# EAGLE library part STM32L412K (library pimoroni-ics)
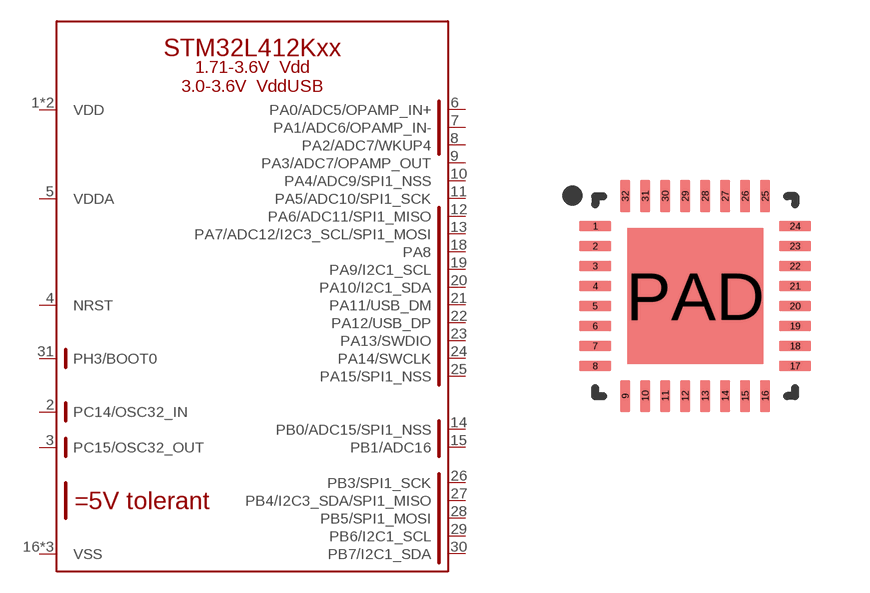
[diagram p101: symbol with the pads of QFN-32; footprint QFN-32]

Designator prefix MCU

## STM32L412KXU  [QFN-32]
1  VDD
2  PC14/OSC32_IN
3  PC15/OSC32_OUT
4  NRST
5  VDDA
6  PA0/ADC5/OPAMP_IN+
7  PA1/ADC6/OPAMP_IN-
8  PA2/ADC7/WKUP4
9  PA3/ADC7/OPAMP_OUT
10  PA4/ADC9/SPI1_NSS
11  PA5/ADC10/SPI1_SCK
12  PA6/ADC11/SPI1_MISO
13  PA7/ADC12/I2C3_SCL/SPI1_MOSI
14  PB0/ADC15/SPI1_NSS
15  PB1/ADC16
16  VSS
17  VDD
18  PA8
19  PA9/I2C1_SCL
20  PA10/I2C1_SDA
21  PA11/USB_DM
22  PA12/USB_DP
23  PA13/SWDIO
24  PA14/SWCLK
25  PA15/SPI1_NSS
26  PB3/SPI1_SCK
27  PB4/I2C3_SDA/SPI1_MISO
28  PB5/SPI1_MOSI
29  PB6/I2C1_SCL
30  PB7/I2C1_SDA
31  PH3/BOOT0
32  VSS
PAD  VSS

## Footprint QFN-32 (pad centres in mm)
smd 0.8 x 0.25: 1 -2.5,1.75; 2 -2.5,1.25; 3 -2.5,0.75; 4 -2.5,0.25; 5 -2.5,-0.25; 6 -2.5,-0.75; 7 -2.5,-1.25; 8 -2.5,-1.75; 17 2.5,-1.75; 18 2.5,-1.25; 19 2.5,-0.75; 20 2.5,-0.25; 21 2.5,0.25; 22 2.5,0.75; 23 2.5,1.25; 24 2.5,1.75
smd 0.25 x 0.8: 9 -1.75,-2.5; 10 -1.25,-2.5; 11 -0.75,-2.5; 12 -0.25,-2.5; 13 0.25,-2.5; 14 0.75,-2.5; 15 1.25,-2.5; 16 1.75,-2.5; 25 1.75,2.5; 26 1.25,2.5; 27 0.75,2.5; 28 0.25,2.5; 29 -0.25,2.5; 30 -0.75,2.5; 31 -1.25,2.5; 32 -1.75,2.5
smd 3.4 x 3.4: PAD 0,0